# Altium footprint library TPS7A0230PDBVR.PcbLib: 3 footprints
Each footprint in its own frame and in the unit in brackets; x right, y up, seen from the top. Pads: shape width x height; smd on the part's side, far side on the other; paste and mask are expansions set on the pad; w line width, h text height; cw(c..) or ccw(c..) is an arc to the next point about the centre after c.
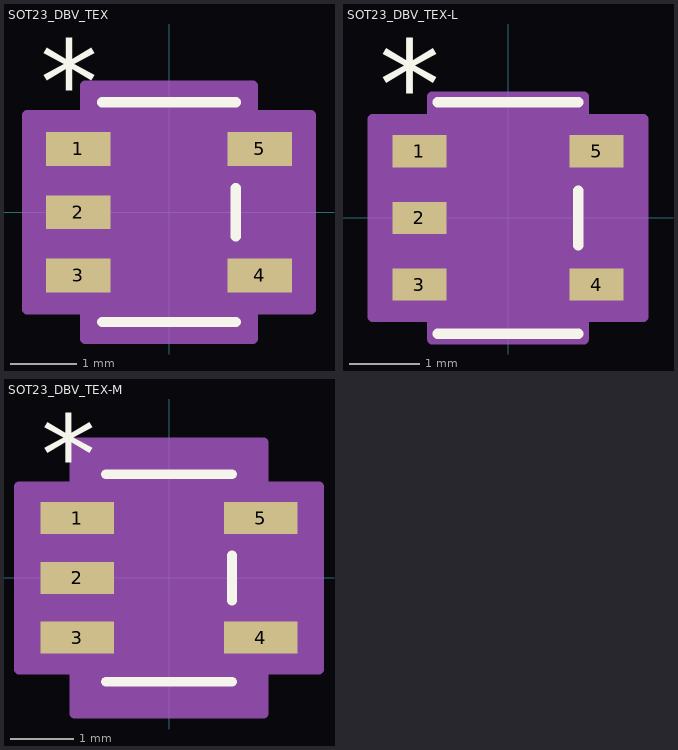
[diagram p0: the footprints below, top view; thin cyan lines are the x and y axes]

## SOT23_DBV_TEX [mil]
pads (5):
  rect 38.28x20 smd paste+0 mask+0: 1(-53.64,37.4) 2(-53.64,0) 3(-53.64,-37.4) 4(53.64,-37.4) 5(53.64,37.4)
Top Overlay:
  lines w6: -39.5,-65 39.5,-65 ; -39.5,65 39.5,65 ; 39.5,-14.3 39.5,14.3
  text ".Designator" at -137.5,-25 h50
  text "*" at -76.14,52.4 h50
Mechanical 13:
  lines w1: -12,60 ccw(c0,60) 12,60 ; -59,-47.4 -59,-27.4 -34.5,-27.4 -34.5,-47.4 -59,-47.4 ; -59,-10 -59,10 -34.5,10 -34.5,-10 -59,-10 ; -59,27.4 -59,47.4 -34.5,47.4 -34.5,27.4 -59,27.4 ; -34.5,-60 34.5,-60 34.5,60 -34.5,60 -34.5,-60 ; 34.5,-47.4 34.5,-27.4 59,-27.4 59,-47.4 34.5,-47.4 ; 34.5,27.4 34.5,47.4 59,47.4 59,27.4 34.5,27.4
  text "*" at -37,9.4 h50
  text ".Designator" at -137.5,-25 h50
Mechanical 15:
  region: 49.5,-75 -49.5,-75 -49.5,-57.4 -84,-57.4 -84,57.4 -49.5,57.4 -49.5,75 49.5,75 49.5,57.4 84,57.4 84,-57.4 49.5,-57.4
  lines w6: -84,-57.4 -49.5,-57.4 -49.5,-75 49.5,-75 49.5,-57.4 84,-57.4 84,57.4 49.5,57.4 49.5,75 -49.5,75 -49.5,57.4 -84,57.4 -84,-57.4
3D body "SOT23_DBV_TEX.step": height 57.09, standoff 0, extent -59.02,-60 59.02,60

## SOT23_DBV_TEX-L [mm]
pads (5):
  rect 0.772x0.458 smd paste+0 mask+0: 1(-1.262,0.95) 2(-1.262,0) 3(-1.262,-0.95) 4(1.262,-0.95) 5(1.262,0.95)
Top Overlay:
  lines w0.152: -1.003,-1.651 1.003,-1.651 ; -1.003,1.651 1.003,1.651 ; 1.003,-0.388 1.003,0.388
  text ".Designator" at -3.492,-0.635 h1.27
  text "*" at -1.834,1.281 h1.27
Mechanical 13:
  lines w0.025: -0.305,1.524 ccw(c0,1.524) 0.305,1.524 ; -1.499,-1.204 -1.499,-0.696 -0.876,-0.696 -0.876,-1.204 -1.499,-1.204 ; -1.499,-0.254 -1.499,0.254 -0.876,0.254 -0.876,-0.254 -1.499,-0.254 ; -1.499,0.696 -1.499,1.204 -0.876,1.204 -0.876,0.696 -1.499,0.696 ; -0.876,-1.524 0.876,-1.524 0.876,1.524 -0.876,1.524 -0.876,-1.524 ; 0.876,-1.204 0.876,-0.696 1.499,-0.696 1.499,-1.204 0.876,-1.204 ; 0.876,0.696 0.876,1.204 1.499,1.204 1.499,0.696 0.876,0.696
  text "*" at -0.94,0.189 h1.27
  text ".Designator" at -3.492,-0.635 h1.27
Mechanical 15:
  region: 1.079,-1.727 -1.079,-1.727 -1.079,-1.408 -1.931,-1.408 -1.931,1.408 -1.079,1.408 -1.079,1.727 1.079,1.727 1.079,1.408 1.931,1.408 1.931,-1.408 1.079,-1.408
  lines w0.152: -1.931,-1.408 -1.079,-1.408 -1.079,-1.727 1.079,-1.727 1.079,-1.408 1.931,-1.408 1.931,1.408 1.079,1.408 1.079,1.727 -1.079,1.727 -1.079,1.408 -1.931,1.408 -1.931,-1.408
3D body "SOT23_DBV_TEX.step": height 1.45, standoff 0, extent -1.499,-1.524 1.499,1.524

## SOT23_DBV_TEX-M [mil]
pads (5):
  rect 46.15x20 smd paste+0 mask+0: 1(-57.58,37.4) 2(-57.58,0) 3(-57.58,-37.4) 4(57.58,-37.4) 5(57.58,37.4)
Top Overlay:
  lines w6: -39.5,-65 39.5,-65 ; -39.5,65 39.5,65 ; 39.5,-14.3 39.5,14.3
  text ".Designator" at -137.5,-25 h50
  text "*" at -80.08,52.4 h50
Mechanical 13:
  lines w1: -12,60 ccw(c0,60) 12,60 ; -59,-47.4 -59,-27.4 -34.5,-27.4 -34.5,-47.4 -59,-47.4 ; -59,-10 -59,10 -34.5,10 -34.5,-10 -59,-10 ; -59,27.4 -59,47.4 -34.5,47.4 -34.5,27.4 -59,27.4 ; -34.5,-60 34.5,-60 34.5,60 -34.5,60 -34.5,-60 ; 34.5,-47.4 34.5,-27.4 59,-27.4 59,-47.4 34.5,-47.4 ; 34.5,27.4 34.5,47.4 59,47.4 59,27.4 34.5,27.4
  text "*" at -37,9.4 h50
  text ".Designator" at -137.5,-25 h50
Mechanical 15:
  region: 59.5,-85 -59.5,-85 -59.5,-57.4 -94,-57.4 -94,57.4 -59.5,57.4 -59.5,85 59.5,85 59.5,57.4 94,57.4 94,-57.4 59.5,-57.4
  lines w6: -94,-57.4 -59.5,-57.4 -59.5,-85 59.5,-85 59.5,-57.4 94,-57.4 94,57.4 59.5,57.4 59.5,85 -59.5,85 -59.5,57.4 -94,57.4 -94,-57.4
3D body "SOT23_DBV_TEX.step": height 57.09, standoff 0, extent -59.02,-60 59.02,60